# EAGLE library part ADL5565ACPZ-R7 (library Analog Devices)
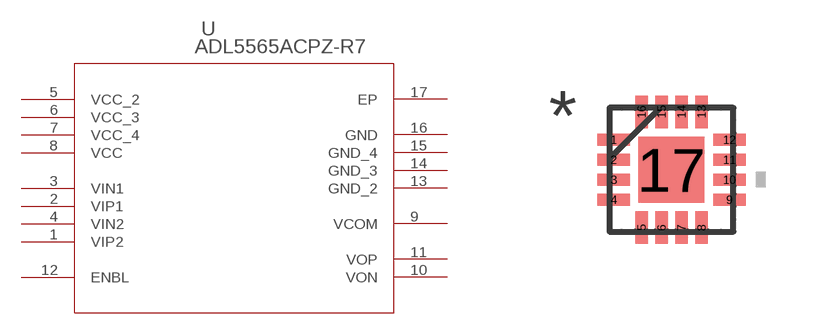
[diagram p5: symbol with the pads of CP_16_27; footprint CP_16_27]

Designator prefix U

## ADL5565ACPZ-R7  [CP_16_27]
1  VIP2  pas
2  VIP1  pas
3  VIN1  pas
4  VIN2  pas
5  VCC_2  pas
6  VCC_3  pas
7  VCC_4  pas
8  VCC  pas
9  VCOM  pas
10  VON  pas
11  VOP  pas
12  ENBL  pas
13  GND_2  pas
14  GND_3  pas
15  GND_4  pas
16  GND  pas
17  EP  pas

## Footprint CP_16_27 (pad centres in mm)
smd 0.813 x 0.305: 1 -1.448,0.75; 2 -1.448,0.25; 3 -1.448,-0.25; 4 -1.448,-0.75; 9 1.448,-0.75; 10 1.448,-0.25; 11 1.448,0.25; 12 1.448,0.75
smd 0.305 x 0.813: 5 -0.75,-1.448; 6 -0.25,-1.448; 7 0.25,-1.448; 8 0.75,-1.448; 13 0.75,1.448; 14 0.25,1.448; 15 -0.25,1.448; 16 -0.75,1.448
smd 1.651 x 1.651: 17 0,0